# Altium schematic symbol library CONN_08P_2.Schlib: 1 symbol
Pins are listed as number, name and electrical type; pins without a type are passive.

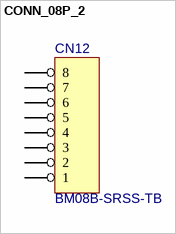
[diagram p0: symbol CONN_08P_2]

## CONN_08P_2
designator CN12, comment BM08B-SRSS-TB
Connector
pins: 1, 2, 3, 4, 5, 6, 7, 8